# EAGLE library part AX5031 (library axsem)
AXSEM high performance transmitter for 400-470 MHz and 800-940 MHz 1 kbps to 200 kbps FSK 1 kbps to 600 kbps ASK & PSK 14 dBm Pout @ 868 MHz 16 dBm Pout @ 433 MHz Wire mode Raw mode HDLC mode 256 bit FIFO
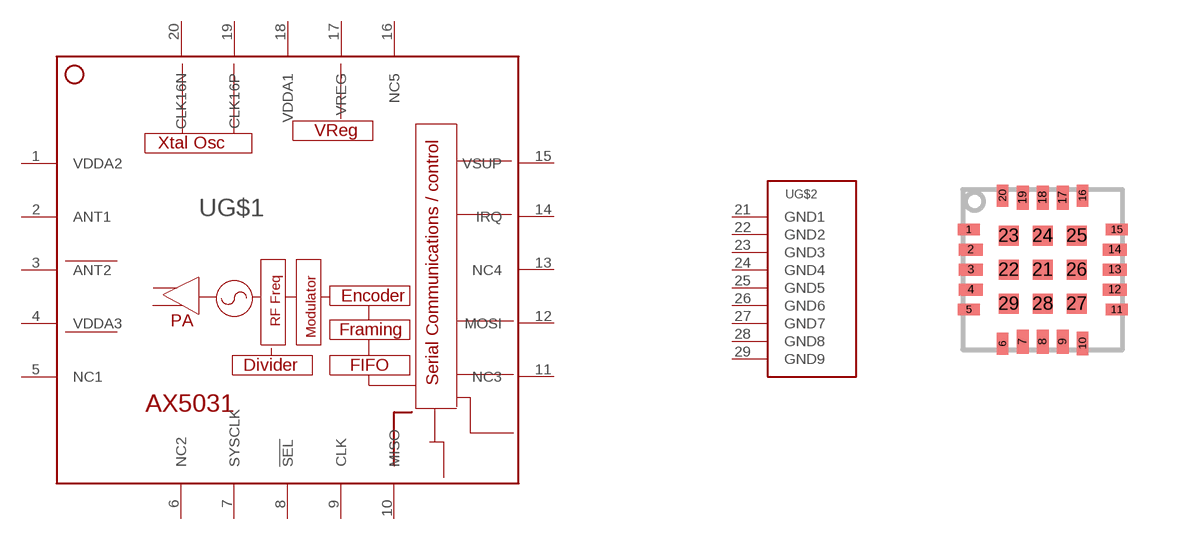
[diagram p1: symbol with the pads of QFN20; footprint QFN20]

Designator prefix -; gates G$2=GROUNDPAD G$1=AX5031

## AX5031  [QFN20]
1  G$1:VDDA2  pwr
2  G$1:ANT1  pas
3  G$1:ANT2  pas
4  G$1:VDDA3  pwr
5  G$1:NC1  nc
6  G$1:NC2  nc
7  G$1:SYSCLK  out
8  G$1:!SEL  in
9  G$1:CLK  in
10  G$1:MISO  out
11  G$1:NC3  nc
12  G$1:MOSI  in
13  G$1:NC4  nc
14  G$1:IRQ  out
15  G$1:VSUP  pwr
16  G$1:NC5  nc
17  G$1:VREG  pwr
18  G$1:VDDA1  pwr
19  G$1:CLK16P  pas
20  G$1:CLK16N  pas
21  G$2:GND1  pwr
22  G$2:GND2  pwr
23  G$2:GND3  pwr
24  G$2:GND4  pwr
25  G$2:GND5  pwr
26  G$2:GND6  pwr
27  G$2:GND7  pwr
28  G$2:GND8  pwr
29  G$2:GND9  pwr

## Footprint QFN20 (pad centres in mm)
smd 0.55 x 0.28: 1 -1.85,1; 5 -1.85,-1; 11 1.85,-1; 15 1.85,1
smd 0.6 x 0.3: 2 -1.8,0.5; 3 -1.8,0; 4 -1.8,-0.5; 12 1.8,-0.5; 13 1.8,0; 14 1.8,0.5
smd 0.28 x 0.55: 6 -1,-1.85; 16 1,1.85; 20 -1,1.85
smd 0.3 x 0.6: 7 -0.5,-1.8; 8 0,-1.8; 9 0.5,-1.8; 17 0.5,1.8; 18 0,1.8; 19 -0.5,1.8
smd 0.28 x 0.58: 10 1,-1.85
smd 0.5 x 0.5: 21 0,0; 22 -0.85,0; 23 -0.85,0.85; 24 0,0.85; 25 0.85,0.85; 26 0.85,0; 27 0.85,-0.85; 28 0,-0.85; 29 -0.85,-0.85